# EAGLE library part ARIA (library octanis-beat)
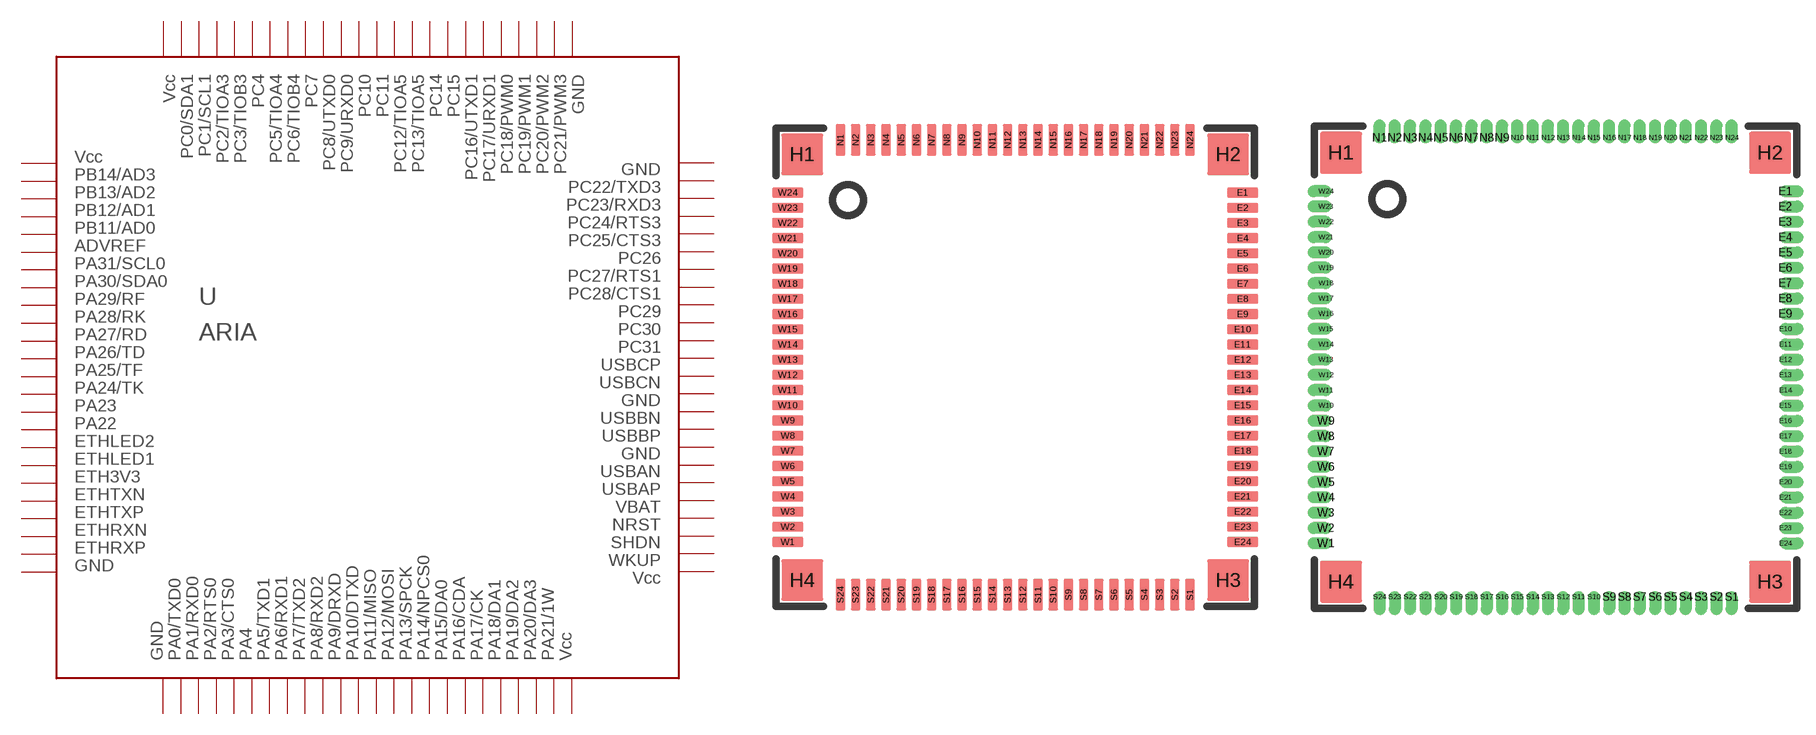
[diagram p0: symbol with the pads of ARIA; footprints ARIA, ARIA-TROUGHHOLE]

Designator prefix -

## ARIA  [ARIA]
E1  E1
E2  E2
E3  E3
E4  E4
E5  E5
E6  E6
E7  E7
E8  E8
E9  E9
E10  E10
E11  E11
E12  E12
E13  E13
E14  E14
E15  E15
E16  E16
E17  E17
E18  E18
E19  E19
E20  E20
E21  E21
E22  E22
E23  E23
E24  E24
N1  N1
N2  N2
N3  N3
N4  N4
N5  N5
N6  N6
N7  N7
N8  N8
N9  N9
N10  N10
N11  N11
N12  N12
N13  N13
N14  N14
N15  N15
N16  N16
N17  N17
N18  N18
N19  N19
N20  N20
N21  N21
N22  N22
N23  N23
N24  N24
S1  S1
S2  S2
S3  S3
S4  S4
S5  S5
S6  S6
S7  S7
S8  S8
S9  S9
S10  S10
S11  S11
S12  S12
S13  S13
S14  S14
S15  S15
S16  S16
S17  S17
S18  S18
S19  S19
S20  S20
S21  S21
S22  S22
S23  S23
S24  S24
W1  W1
W2  W2
W3  W3
W4  W4
W5  W5
W6  W6
W7  W7
W8  W8
W9  W9
W10  W10
W11  W11
W12  W12
W13  W13
W14  W14
W15  W15
W16  W16
W17  W17
W18  W18
W19  W19
W20  W20
W21  W21
W22  W22
W23  W23
W24  W24

## ARIATHROUGHHOLE  [ARIA-TROUGHHOLE]
Pads as for ARIA

## Footprint ARIA (pad centres in mm)
smd 2.6 x 0.8: E1 19,14.605; E2 19,13.335; E3 19,12.065; E4 19,10.795; E5 19,9.525; E6 19,8.255; E7 19,6.985; E8 19,5.715; E9 19,4.445; E10 19,3.175; E11 19,1.905; E12 19,0.635; E13 19,-0.635; E14 19,-1.905; E15 19,-3.175; E16 19,-4.445; E17 19,-5.715; E18 19,-6.985; E19 19,-8.255; E20 19,-9.525; E21 19,-10.795; E22 19,-12.065; E23 19,-13.335; E24 19,-14.605; W1 -19,-14.605; W2 -19,-13.335; W3 -19,-12.065; W4 -19,-10.795; W5 -19,-9.525; W6 -19,-8.255; W7 -19,-6.985; W8 -19,-5.715; W9 -19,-4.445; W10 -19,-3.175; W11 -19,-1.905; W12 -19,-0.635; W13 -19,0.635; W14 -19,1.905; W15 -19,3.175; W16 -19,4.445; W17 -19,5.715; W18 -19,6.985; W19 -19,8.255; W20 -19,9.525; W21 -19,10.795; W22 -19,12.065; W23 -19,13.335; W24 -19,14.605
smd 3.5 x 3.5: H1 -17.8,17.8; H2 17.8,17.8; H3 17.8,-17.8; H4 -17.8,-17.8
smd 0.8 x 2.6: N1 -14.605,19; N2 -13.335,19; N3 -12.065,19; N4 -10.795,19; N5 -9.525,19; N6 -8.255,19; N7 -6.985,19; N8 -5.715,19; N9 -4.445,19; N10 -3.175,19; N11 -1.905,19; N12 -0.635,19; N13 0.635,19; N14 1.905,19; N15 3.175,19; N16 4.445,19; N17 5.715,19; N18 6.985,19; N19 8.255,19; N20 9.525,19; N21 10.795,19; N22 12.065,19; N23 13.335,19; N24 14.605,19; S1 14.605,-19; S2 13.335,-19; S3 12.065,-19; S4 10.795,-19; S5 9.525,-19; S6 8.255,-19; S7 6.985,-19; S8 5.715,-19; S9 4.445,-19; S10 3.175,-19; S11 1.905,-19; S12 0.635,-19; S13 -0.635,-19; S14 -1.905,-19; S15 -3.175,-19; S16 -4.445,-19; S17 -5.715,-19; S18 -6.985,-19; S19 -8.255,-19; S20 -9.525,-19; S21 -10.795,-19; S22 -12.065,-19; S23 -13.335,-19; S24 -14.605,-19

## Footprint ARIA-TROUGHHOLE (pad centres in mm)
drill 0.5 pad 0.813 offset: E1 19.05,14.605; E2 19.05,13.335; E3 19.05,12.065; E4 19.05,10.795; E5 19.05,9.525; E6 19.05,8.255; E7 19.05,6.985; E8 19.05,5.715; E9 19.05,4.445; E10 19.05,3.175; E11 19.05,1.905; E12 19.05,0.635; E13 19.05,-0.635; E14 19.05,-1.905; E15 19.05,-3.175; E16 19.05,-4.445; E17 19.05,-5.715; E18 19.05,-6.985; E19 19.05,-8.255; E20 19.05,-9.525; E21 19.05,-10.795; E22 19.05,-12.065; E23 19.05,-13.335; E24 19.05,-14.605; N1 -14.605,19.05; N2 -13.335,19.05; N3 -12.065,19.05; N4 -10.795,19.05; N5 -9.525,19.05; N6 -8.255,19.05; N7 -6.985,19.05; N8 -5.715,19.05; N9 -4.445,19.05; N10 -3.175,19.05; N11 -1.905,19.05; N12 -0.635,19.05; N13 0.635,19.05; N14 1.905,19.05; N15 3.175,19.05; N16 4.445,19.05; N17 5.715,19.05; N18 6.985,19.05; N19 8.255,19.05; N20 9.525,19.05; N21 10.795,19.05; N22 12.065,19.05; N23 13.335,19.05; N24 14.605,19.05; S1 14.605,-19.05; S2 13.335,-19.05; S3 12.065,-19.05; S4 10.795,-19.05; S5 9.525,-19.05; S6 8.255,-19.05; S7 6.985,-19.05; S8 5.715,-19.05; S9 4.445,-19.05; S10 3.175,-19.05; S11 1.905,-19.05; S12 0.635,-19.05; S13 -0.635,-19.05; S14 -1.905,-19.05; S15 -3.175,-19.05; S16 -4.445,-19.05; S17 -5.715,-19.05; S18 -6.985,-19.05; S19 -8.255,-19.05; S20 -9.525,-19.05; S21 -10.795,-19.05; S22 -12.065,-19.05; S23 -13.335,-19.05; S24 -14.605,-19.05; W1 -19.05,-14.605; W2 -19.05,-13.335; W3 -19.05,-12.065; W4 -19.05,-10.795; W5 -19.05,-9.525; W6 -19.05,-8.255; W7 -19.05,-6.985; W8 -19.05,-5.715; W9 -19.05,-4.445; W10 -19.05,-3.175; W11 -19.05,-1.905; W12 -19.05,-0.635; W13 -19.05,0.635; W14 -19.05,1.905; W15 -19.05,3.175; W16 -19.05,4.445; W17 -19.05,5.715; W18 -19.05,6.985; W19 -19.05,8.255; W20 -19.05,9.525; W21 -19.05,10.795; W22 -19.05,12.065; W23 -19.05,13.335; W24 -19.05,14.605
smd 3.5 x 3.5: H1 -17.8,17.8; H2 17.8,17.8; H3 17.8,-17.8; H4 -17.8,-17.8